# Altium footprint library L78xxCV.PcbLib: 1 footprints
Each footprint in its own frame and in the unit in brackets; x right, y up, seen from the top. Pads: shape width x height; smd on the part's side, far side on the other; paste and mask are expansions set on the pad; w line width, h text height; cw(c..) or ccw(c..) is an arc to the next point about the centre after c.
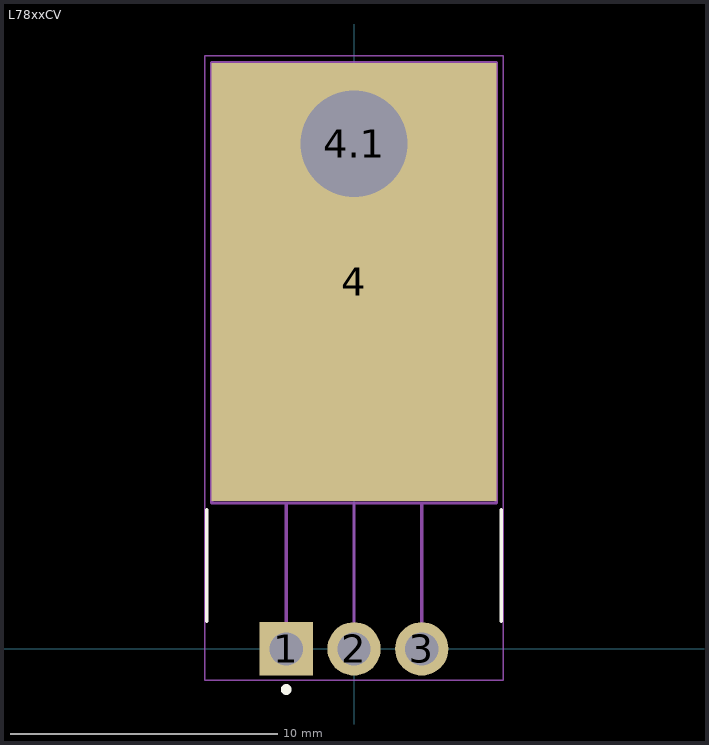
[diagram p0: the footprint, top view; thin cyan lines are the x and y axes]

## L78xxCV [mm]
pads (5):
  rect 2x2 hole 1.24: 1(-2.54,0)
  round 2 hole 1.24: 2(0,0) 3(2.54,0)
  rect 10.67x16.43 smd: 4(0,13.75)
  round 6 hole 4: 4.1(0,18.925)
Top Overlay:
  circle w0.2: c-2.54,-1.524 r0.1
  lines w0.127: -5.52,1.04 -5.52,5.22 ; 5.52,1.04 5.52,5.22
Mechanical 13:
  lines w0.127: -2.54,0.93 -2.54,5.46 ; 0,0.93 0,5.46 ; 2.54,0.93 2.54,5.46 ; -5.335,5.465 5.335,5.465 5.335,21.975 -5.335,21.975 -5.335,5.465
Mechanical 15:
  lines w0.05: -5.59,-1.175 -5.59,22.225 5.59,22.225 5.59,-1.175 -5.59,-1.175
3D body "L7806CV.STEP": height 20.75, standoff -9.27, extent -4.985,-1.778 4.985,2.667